# Altium footprint library LM2576.PcbLib: 1 footprints
Each footprint in its own frame and in the unit in brackets; x right, y up, seen from the top. Pads: shape width x height; smd on the part's side, far side on the other; paste and mask are expansions set on the pad; w line width, h text height; cw(c..) or ccw(c..) is an arc to the next point about the centre after c.
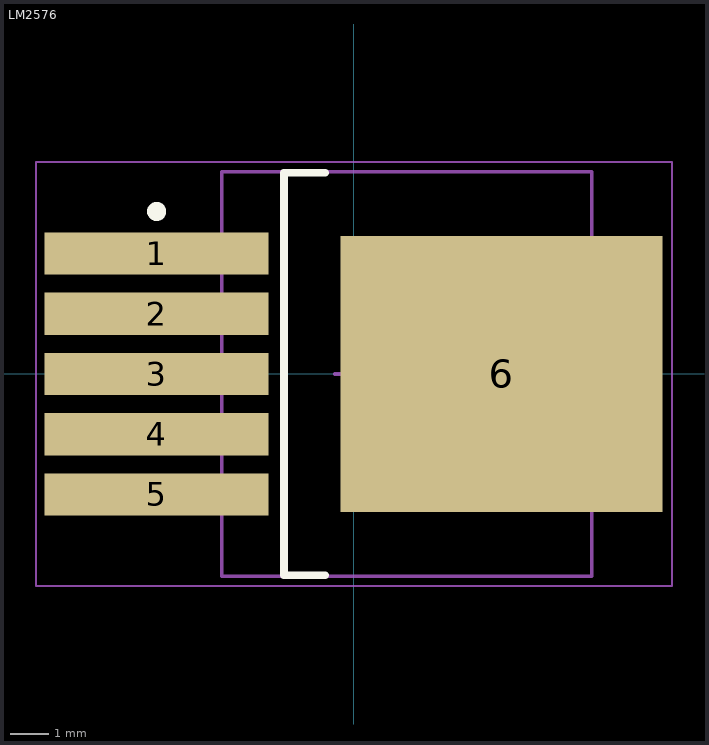
[diagram p0: the footprint, top view; thin cyan lines are the x and y axes]

## LM2576 [mm] "D2-PAK, 6-Pads, Body 7.93x8.63mm (max), IPC Medium Density"
height 4.06
pads (6):
  rect 5.85x1.1 smd: 1(-5.15,3.14) 2(-5.15,1.57) 3(-5.15,0) 4(-5.15,-1.57) 5(-5.15,-3.14)
  rect 8.4x7.2 smd: 6(3.85,0)
Top Overlay:
  circle w0.25: c-5.15,4.24 r0.125
  lines w0.2: -0.75,-5.25 -1.825,-5.25 -1.825,5.25 -0.75,5.25
Mechanical 13:
  lines w0.1: -3.45,-5.275 6.2,-5.275 6.2,5.275 -3.45,5.275 -3.45,-5.275
Mechanical 15:
  lines w0.05: -8.3,-5.525 8.3,-5.525 8.3,5.525 -8.3,5.525 -8.3,-5.525
  lines w0.1: -0.5,0 0.5,0 ; 0,-0.5 0,0.5
3D body "DPAK157P1524X406-6N.step": height 4.06, standoff 0, extent -7.24,-5.275 8,5.275